# Altium footprint library CAP_CAN_E_8MMx6.2MM_SMT.PcbLib: 1 footprints
Each footprint in its own frame and in the unit in brackets; x right, y up, seen from the top. Pads: shape width x height; smd on the part's side, far side on the other; paste and mask are expansions set on the pad; w line width, h text height; cw(c..) or ccw(c..) is an arc to the next point about the centre after c.
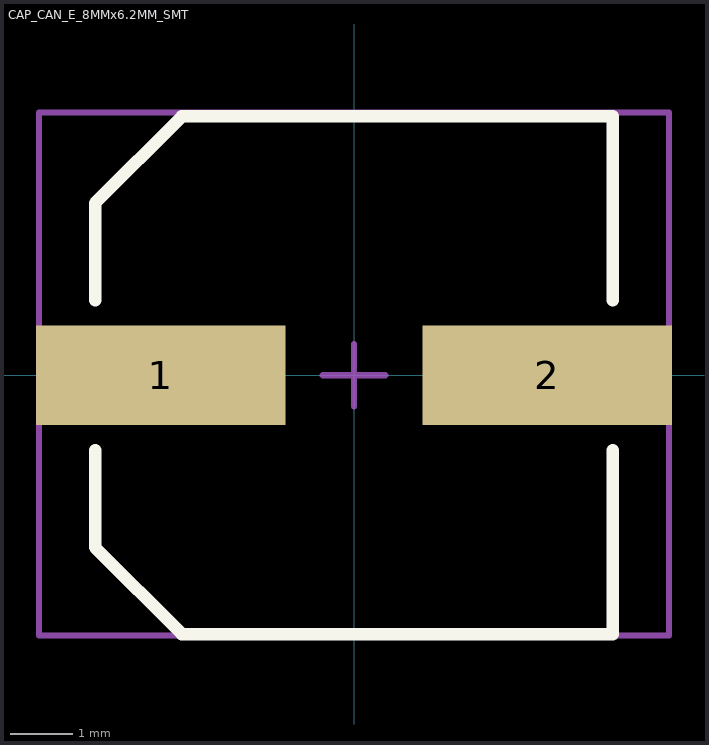
[diagram p0: the footprint, top view; thin cyan lines are the x and y axes]

## CAP_CAN_E_8MMx6.2MM_SMT [mm] "CAP SMT CAN E 8MM dia x 6.2MM height"
height 6.2
pads (2):
  rect 4x1.6 smd mask+0.102: 1(-3.1,0) 2(3.1,0)
Top Overlay:
  lines w0.2: -4.15,-1.2 -4.15,-2.76 -2.76,-4.15 4.15,-4.15 4.15,-1.2 ; -4.15,1.2 -4.15,2.76 -2.76,4.15 4.15,4.15 4.15,1.2
Part Outline:
  lines w0.1: -0.5,0 0.5,0 ; 0,-0.5 0,0.5 ; -5.05,-4.17 -5.05,4.21 5.05,4.21 5.05,-4.17 -5.05,-4.17
3D body: height 8.4, standoff 0.1, extent -3.992,-3.968 3.992,4